# EAGLE library part MOTOR_MOUNT (library _microMouse)
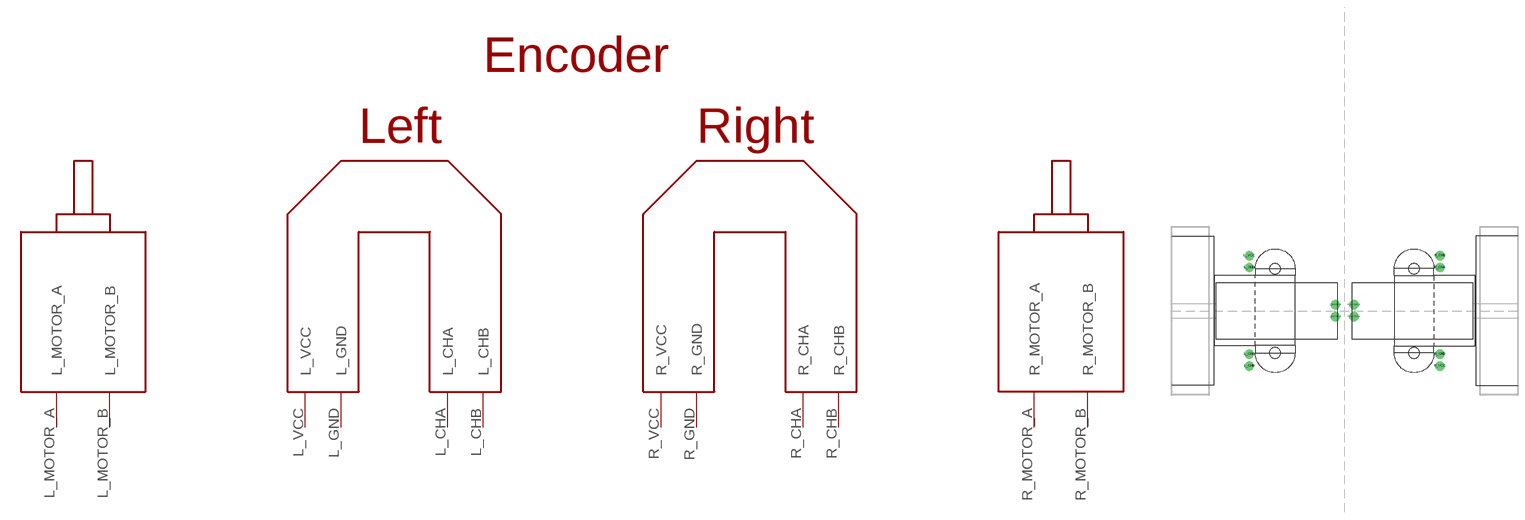
[diagram p6: symbol with the pads of MOTOR_MOUNT; footprint MOTOR_MOUNT]

Designator prefix -

## MOTOR_MOUNT  [MOTOR_MOUNT]
L_CHA  L_CHA
L_CHB  L_CHB
L_GND  L_GND
L_MOTOR_A  L_MOTOR_A
L_MOTOR_B  L_MOTOR_B
L_VCC  L_VCC
R_CHA  R_CHA
R_CHB  R_CHB
R_GND  R_GND
R_MOTOR_A  R_MOTOR_A
R_MOTOR_B  R_MOTOR_B
R_VCC  R_VCC

## Footprint MOTOR_MOUNT (pad centres in mm)
drill 0.95 pad 2: L_CHA -20.375,-10.1; L_CHB -20.375,-12.64; L_GND -20.375,8.44; L_MOTOR_A -2,0.44; L_MOTOR_B -2,-2.1; L_VCC -20.375,10.98; R_CHA 20.375,8.44; R_CHB 20.375,10.98; R_GND 20.375,-10.1; R_MOTOR_A 2,-2.1; R_MOTOR_B 2,0.44; R_VCC 20.375,-12.64
hole 2.286 at 14.85,8.17
hole 2.286 at 14.85,-9.83
hole 2.286 at -14.85,-9.83
hole 2.286 at -14.85,8.17